# Altium footprint library 2020-11-22_16-49-29.PcbLib: 3 footprints
Each footprint in its own frame and in the unit in brackets; x right, y up, seen from the top. Pads: shape width x height; smd on the part's side, far side on the other; paste and mask are expansions set on the pad; w line width, h text height; cw(c..) or ccw(c..) is an arc to the next point about the centre after c.
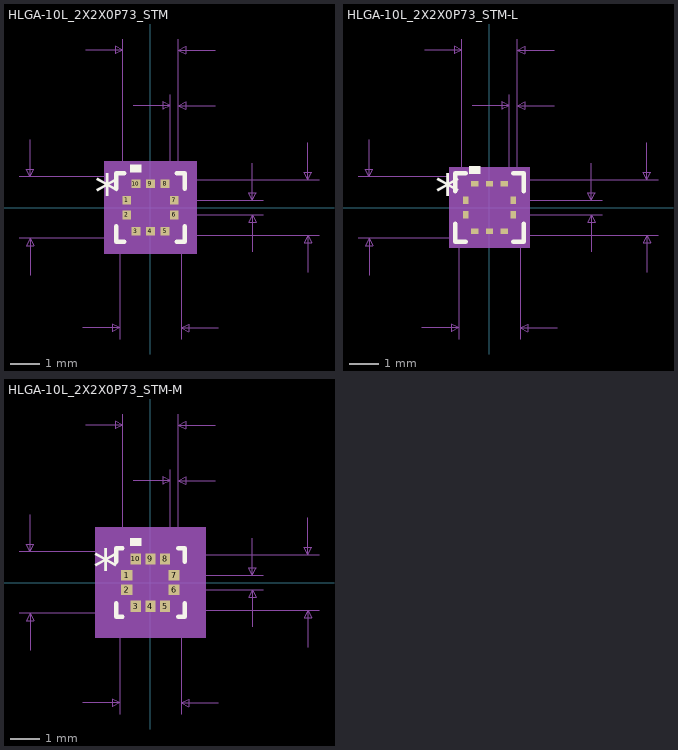
[diagram p0: the footprints below, top view; thin cyan lines are the x and y axes]

## HLGA-10L_2X2X0P73_STM [mil]
pads (10):
  rect 11x12 smd paste-1.2 mask+2: 1(-32,9.84) 2(-32,-9.84) 6(32,-9.84) 7(32,9.84)
  rect 12x11 smd paste-1.2 mask+2: 3(-19.68,-32) 4(0,-32) 5(19.68,-32) 8(19.68,32) 9(0,32) 10(-19.68,32)
Top Overlay:
  region: -12.19,47.5 -27.18,47.5 -27.18,57.5 -12.19,57.5
  lines w6: -46.5,-25.36 -46.5,-46.5 -35.2,-46.5 ; -46.5,25.36 -46.5,46.5 -35.2,46.5 ; 35.2,-46.5 46.5,-46.5 46.5,-25.36 ; 35.2,46.5 46.5,46.5 46.5,25.36
  text "*" at -75,-5.32 h50
Mechanical 5:
  region: 62.5,-62.5 -62.5,-62.5 -62.5,62.5 62.5,62.5
Mechanical 7:
  lines w1: -177.5,-41.5 41.5,-41.5 ; -177.5,41.5 41.5,41.5 41.5,-177.5 ; -162.5,-91.5 -162.5,-41.5 ; -162.5,91.5 -162.5,41.5 ; -91.5,-162.5 -41.5,-162.5 ; -87.5,212.5 -37.5,212.5 ; -41.5,-177.5 -41.5,41.5 ; -37.5,9.84 -37.5,227.5 ; -23.5,137.5 26.5,137.5 ; 19.68,-37.5 227.5,-37.5 ; 19.68,37.5 227.5,37.5 ; 26.5,9.84 26.5,152.5 ; 32,-9.84 152.5,-9.84 ; 32,9.84 152.5,9.84 ; 37.5,152.5 37.5,9.84 37.5,227.5 ; 87.5,137.5 37.5,137.5 ; 87.5,212.5 37.5,212.5 ; 91.5,-162.5 41.5,-162.5 ; 137.5,-59.84 137.5,-9.84 ; 137.5,59.84 137.5,9.84 ; 212.5,-87.5 212.5,-37.5 ; 212.5,87.5 212.5,37.5 ; -162.5,-41.5 -167.5,-51.5 -157.5,-51.5 -162.5,-41.5 ; -162.5,41.5 -167.5,51.5 -157.5,51.5 -162.5,41.5 ; -41.5,-162.5 -51.5,-157.5 -51.5,-167.5 -41.5,-162.5 ; -37.5,212.5 -47.5,217.5 -47.5,207.5 -37.5,212.5 ; 26.5,137.5 16.5,142.5 16.5,132.5 26.5,137.5 ; 37.5,137.5 47.5,142.5 47.5,132.5 37.5,137.5 ; 37.5,212.5 47.5,217.5 47.5,207.5 37.5,212.5 ; 41.5,-162.5 51.5,-157.5 51.5,-167.5 41.5,-162.5 ; 137.5,-9.84 132.5,-19.84 142.5,-19.84 137.5,-9.84 ; 137.5,9.84 132.5,19.84 142.5,19.84 137.5,9.84 ; 212.5,-37.5 207.5,-47.5 217.5,-47.5 212.5,-37.5 ; 212.5,37.5 207.5,47.5 217.5,47.5 212.5,37.5
  text "Default Padstyle: RX12Y11D0T" at -350,-347.5 h50
  text "Alt 1 Padstyle: OX60Y90D30P" at -337.5,-527.5 h50
  text "Alt 2 Padstyle: OX90Y60D30P" at -337.5,-587.5 h50
  text "0.02in/0.5mm" at 157.5,-12.5 h25
  text "0.011in/0.279mm" at -61.75,157.5 h25
  text "0.075in/1.905mm" at -93.75,232.5 h25
  text "0.075in/1.905mm" at 232.5,-12.5 h25
  text "0.083in/2.108mm" at -370,-12.5 h25
  text "0.083in/2.108mm" at -93.75,-207.5 h25
Mechanical 13:
  lines w1: -41.5,-8.5 8.5,41.5 ; -41.5,-41.5 41.5,-41.5 ; -41.5,-41.5 -41.5,41.5 ; -41.5,-41.5 -41.5,-41.5 ; -41.5,41.5 41.5,41.5 ; -41.5,41.5 -41.5,41.5 ; 41.5,-41.5 41.5,-41.5 ; 41.5,-41.5 41.5,41.5 ; 41.5,41.5 41.5,41.5 ; -41.5,-15.84 -41.5,-3.84 -37.5,-3.84 -37.5,-15.84 -41.5,-15.84 ; -41.5,3.84 -41.5,15.84 -37.5,15.84 -37.5,3.84 -41.5,3.84 ; -25.68,-41.5 -13.69,-41.5 -13.69,-37.5 -25.68,-37.5 -25.68,-41.5 ; -25.68,37.5 -13.69,37.5 -13.69,41.5 -25.68,41.5 -25.68,37.5 ; -6,-41.5 6,-41.5 6,-37.5 -6,-37.5 -6,-41.5 ; -6,37.5 6,37.5 6,41.5 -6,41.5 -6,37.5 ; 13.69,-41.5 25.68,-41.5 25.68,-37.5 13.69,-37.5 13.69,-41.5 ; 13.69,37.5 25.68,37.5 25.68,41.5 13.69,41.5 13.69,37.5 ; 37.5,-15.84 41.5,-15.84 41.5,-3.84 37.5,-3.84 37.5,-15.84 ; 37.5,3.84 41.5,3.84 41.5,15.84 37.5,15.84 37.5,3.84
  text "*" at -39,-5.32 h50
Mechanical 15:
  region: -35.69,-51.5 -51.5,-51.5 -51.5,-25.84 -51.5,25.84 -51.5,51.5 -35.69,51.5 35.69,51.5 51.5,51.5 51.5,25.84 51.5,-25.84 51.5,-51.5 35.69,-51.5
  lines w6: -51.5,-25.84 -51.5,-51.5 -35.69,-51.5 ; -51.5,-25.84 -51.5,-25.84 ; -51.5,-25.84 -51.5,25.84 ; -51.5,25.84 -51.5,25.84 ; -51.5,25.84 -51.5,51.5 -35.69,51.5 ; -35.69,-51.5 35.69,-51.5 ; -35.69,-51.5 -35.69,-51.5 ; -35.69,51.5 -35.69,51.5 ; -35.69,51.5 35.69,51.5 ; 35.69,-51.5 51.5,-51.5 51.5,-25.84 ; 35.69,-51.5 35.69,-51.5 ; 35.69,51.5 35.69,51.5 ; 35.69,51.5 51.5,51.5 51.5,25.84 ; 51.5,-25.84 51.5,25.84 ; 51.5,-25.84 51.5,-25.84 ; 51.5,25.84 51.5,25.84
3D body: height 10, standoff 0, extent 0,0 10,10

## HLGA-10L_2X2X0P73_STM-L [mil]
pads (10):
  rect 7x10 smd paste+0 mask+0: 1(-32,9.84) 2(-32,-9.84) 6(32,-9.84) 7(32,9.84)
  rect 10x7 smd paste+0 mask+0: 3(-19.68,-32) 4(0,-32) 5(19.68,-32) 8(19.68,32) 9(0,32) 10(-19.68,32)
Top Overlay:
  region: -12.19,45.5 -27.18,45.5 -27.18,55.5 -12.19,55.5
  lines w6: -46.5,-21.96 -46.5,-46.5 -31.8,-46.5 ; -46.5,21.96 -46.5,46.5 -31.8,46.5 ; 31.8,-46.5 46.5,-46.5 46.5,-21.96 ; 31.8,46.5 46.5,46.5 46.5,21.96
  text "*" at -73,-5.32 h50
Mechanical 5:
  region: 54.5,-54.5 -54.5,-54.5 -54.5,54.5 54.5,54.5
Mechanical 7:
  lines w1: -177.5,-41.5 41.5,-41.5 ; -177.5,41.5 41.5,41.5 41.5,-177.5 ; -162.5,-91.5 -162.5,-41.5 ; -162.5,91.5 -162.5,41.5 ; -91.5,-162.5 -41.5,-162.5 ; -87.5,212.5 -37.5,212.5 ; -41.5,-177.5 -41.5,41.5 ; -37.5,9.84 -37.5,227.5 ; -23.5,137.5 26.5,137.5 ; 19.68,-37.5 227.5,-37.5 ; 19.68,37.5 227.5,37.5 ; 26.5,9.84 26.5,152.5 ; 32,-9.84 152.5,-9.84 ; 32,9.84 152.5,9.84 ; 37.5,152.5 37.5,9.84 37.5,227.5 ; 87.5,137.5 37.5,137.5 ; 87.5,212.5 37.5,212.5 ; 91.5,-162.5 41.5,-162.5 ; 137.5,-59.84 137.5,-9.84 ; 137.5,59.84 137.5,9.84 ; 212.5,-87.5 212.5,-37.5 ; 212.5,87.5 212.5,37.5 ; -162.5,-41.5 -167.5,-51.5 -157.5,-51.5 -162.5,-41.5 ; -162.5,41.5 -167.5,51.5 -157.5,51.5 -162.5,41.5 ; -41.5,-162.5 -51.5,-157.5 -51.5,-167.5 -41.5,-162.5 ; -37.5,212.5 -47.5,217.5 -47.5,207.5 -37.5,212.5 ; 26.5,137.5 16.5,142.5 16.5,132.5 26.5,137.5 ; 37.5,137.5 47.5,142.5 47.5,132.5 37.5,137.5 ; 37.5,212.5 47.5,217.5 47.5,207.5 37.5,212.5 ; 41.5,-162.5 51.5,-157.5 51.5,-167.5 41.5,-162.5 ; 137.5,-9.84 132.5,-19.84 142.5,-19.84 137.5,-9.84 ; 137.5,9.84 132.5,19.84 142.5,19.84 137.5,9.84 ; 212.5,-37.5 207.5,-47.5 217.5,-47.5 212.5,-37.5 ; 212.5,37.5 207.5,47.5 217.5,47.5 212.5,37.5
  text "Default Padstyle: RX10Y7D0T" at -337.5,-345.5 h50
  text "Alt 1 Padstyle: OX60Y90D30P" at -337.5,-525.5 h50
  text "Alt 2 Padstyle: OX90Y60D30P" at -337.5,-585.5 h50
  text "0.02in/0.5mm" at 157.5,-12.5 h25
  text "0.011in/0.279mm" at -61.75,157.5 h25
  text "0.075in/1.905mm" at -93.75,232.5 h25
  text "0.075in/1.905mm" at 232.5,-12.5 h25
  text "0.083in/2.108mm" at -370,-12.5 h25
  text "0.083in/2.108mm" at -93.75,-207.5 h25
Mechanical 13:
  lines w1: -41.5,-8.5 8.5,41.5 ; -41.5,-41.5 41.5,-41.5 ; -41.5,-41.5 -41.5,41.5 ; -41.5,-41.5 -41.5,-41.5 ; -41.5,41.5 41.5,41.5 ; -41.5,41.5 -41.5,41.5 ; 41.5,-41.5 41.5,-41.5 ; 41.5,-41.5 41.5,41.5 ; 41.5,41.5 41.5,41.5 ; -41.5,-15.84 -41.5,-3.84 -37.5,-3.84 -37.5,-15.84 -41.5,-15.84 ; -41.5,3.84 -41.5,15.84 -37.5,15.84 -37.5,3.84 -41.5,3.84 ; -25.68,-41.5 -13.69,-41.5 -13.69,-37.5 -25.68,-37.5 -25.68,-41.5 ; -25.68,37.5 -13.69,37.5 -13.69,41.5 -25.68,41.5 -25.68,37.5 ; -6,-41.5 6,-41.5 6,-37.5 -6,-37.5 -6,-41.5 ; -6,37.5 6,37.5 6,41.5 -6,41.5 -6,37.5 ; 13.69,-41.5 25.68,-41.5 25.68,-37.5 13.69,-37.5 13.69,-41.5 ; 13.69,37.5 25.68,37.5 25.68,41.5 13.69,41.5 13.69,37.5 ; 37.5,-15.84 41.5,-15.84 41.5,-3.84 37.5,-3.84 37.5,-15.84 ; 37.5,3.84 41.5,3.84 41.5,15.84 37.5,15.84 37.5,3.84
  text "*" at -41,-5.32 h50
Mechanical 15:
  region: -28.68,-45.5 -45.5,-45.5 -45.5,-18.84 -45.5,18.84 -45.5,45.5 -28.68,45.5 28.68,45.5 45.5,45.5 45.5,18.84 45.5,-18.84 45.5,-45.5 28.68,-45.5
  lines w6: -45.5,-18.84 -45.5,-45.5 -28.68,-45.5 ; -45.5,-18.84 -45.5,-18.84 ; -45.5,-18.84 -45.5,18.84 ; -45.5,18.84 -45.5,18.84 ; -45.5,18.84 -45.5,45.5 -28.68,45.5 ; -28.68,-45.5 28.68,-45.5 ; -28.68,-45.5 -28.68,-45.5 ; -28.68,45.5 -28.68,45.5 ; -28.68,45.5 28.68,45.5 ; 28.68,-45.5 45.5,-45.5 45.5,-18.84 ; 28.68,-45.5 28.68,-45.5 ; 28.68,45.5 28.68,45.5 ; 28.68,45.5 45.5,45.5 45.5,18.84 ; 45.5,-18.84 45.5,18.84 ; 45.5,-18.84 45.5,-18.84 ; 45.5,18.84 45.5,18.84
3D body: height 10, standoff 0, extent 0,0 10,10

## HLGA-10L_2X2X0P73_STM-M [mil]
pads (10):
  rect 15x14 smd paste+0 mask+0: 1(-32,9.84) 2(-32,-9.84) 6(32,-9.84) 7(32,9.84)
  rect 14x15 smd paste+0 mask+0: 3(-19.68,-32) 4(0,-32) 5(19.68,-32) 8(19.68,32) 9(0,32) 10(-19.68,32)
Top Overlay:
  region: -12.19,49.5 -27.18,49.5 -27.18,59.5 -12.19,59.5
  lines w6: -46.5,-27.92 -46.5,-46.5 -37.76,-46.5 ; -46.5,27.92 -46.5,46.5 -37.76,46.5 ; 37.76,-46.5 46.5,-46.5 46.5,-27.92 ; 37.76,46.5 46.5,46.5 46.5,27.92
  text "*" at -77,-5.32 h50
Mechanical 5:
  region: 74.5,-74.5 -74.5,-74.5 -74.5,74.5 74.5,74.5
Mechanical 7:
  lines w1: -177.5,-41.5 41.5,-41.5 ; -177.5,41.5 41.5,41.5 41.5,-177.5 ; -162.5,-91.5 -162.5,-41.5 ; -162.5,91.5 -162.5,41.5 ; -91.5,-162.5 -41.5,-162.5 ; -87.5,212.5 -37.5,212.5 ; -41.5,-177.5 -41.5,41.5 ; -37.5,9.84 -37.5,227.5 ; -23.5,137.5 26.5,137.5 ; 19.68,-37.5 227.5,-37.5 ; 19.68,37.5 227.5,37.5 ; 26.5,9.84 26.5,152.5 ; 32,-9.84 152.5,-9.84 ; 32,9.84 152.5,9.84 ; 37.5,152.5 37.5,9.84 37.5,227.5 ; 87.5,137.5 37.5,137.5 ; 87.5,212.5 37.5,212.5 ; 91.5,-162.5 41.5,-162.5 ; 137.5,-59.84 137.5,-9.84 ; 137.5,59.84 137.5,9.84 ; 212.5,-87.5 212.5,-37.5 ; 212.5,87.5 212.5,37.5 ; -162.5,-41.5 -167.5,-51.5 -157.5,-51.5 -162.5,-41.5 ; -162.5,41.5 -167.5,51.5 -157.5,51.5 -162.5,41.5 ; -41.5,-162.5 -51.5,-157.5 -51.5,-167.5 -41.5,-162.5 ; -37.5,212.5 -47.5,217.5 -47.5,207.5 -37.5,212.5 ; 26.5,137.5 16.5,142.5 16.5,132.5 26.5,137.5 ; 37.5,137.5 47.5,142.5 47.5,132.5 37.5,137.5 ; 37.5,212.5 47.5,217.5 47.5,207.5 37.5,212.5 ; 41.5,-162.5 51.5,-157.5 51.5,-167.5 41.5,-162.5 ; 137.5,-9.84 132.5,-19.84 142.5,-19.84 137.5,-9.84 ; 137.5,9.84 132.5,19.84 142.5,19.84 137.5,9.84 ; 212.5,-37.5 207.5,-47.5 217.5,-47.5 212.5,-37.5 ; 212.5,37.5 207.5,47.5 217.5,47.5 212.5,37.5
  text "Default Padstyle: RX14Y15D0T" at -350,-349.5 h50
  text "Alt 1 Padstyle: OX60Y90D30P" at -337.5,-529.5 h50
  text "Alt 2 Padstyle: OX90Y60D30P" at -337.5,-589.5 h50
  text "0.02in/0.5mm" at 157.5,-12.5 h25
  text "0.011in/0.279mm" at -61.75,157.5 h25
  text "0.075in/1.905mm" at -93.75,232.5 h25
  text "0.075in/1.905mm" at 232.5,-12.5 h25
  text "0.083in/2.108mm" at -370,-12.5 h25
  text "0.083in/2.108mm" at -93.75,-207.5 h25
Mechanical 13:
  lines w1: -41.5,-8.5 8.5,41.5 ; -41.5,-41.5 41.5,-41.5 ; -41.5,-41.5 -41.5,41.5 ; -41.5,-41.5 -41.5,-41.5 ; -41.5,41.5 41.5,41.5 ; -41.5,41.5 -41.5,41.5 ; 41.5,-41.5 41.5,-41.5 ; 41.5,-41.5 41.5,41.5 ; 41.5,41.5 41.5,41.5 ; -41.5,-15.84 -41.5,-3.84 -37.5,-3.84 -37.5,-15.84 -41.5,-15.84 ; -41.5,3.84 -41.5,15.84 -37.5,15.84 -37.5,3.84 -41.5,3.84 ; -25.68,-41.5 -13.69,-41.5 -13.69,-37.5 -25.68,-37.5 -25.68,-41.5 ; -25.68,37.5 -13.69,37.5 -13.69,41.5 -25.68,41.5 -25.68,37.5 ; -6,-41.5 6,-41.5 6,-37.5 -6,-37.5 -6,-41.5 ; -6,37.5 6,37.5 6,41.5 -6,41.5 -6,37.5 ; 13.69,-41.5 25.68,-41.5 25.68,-37.5 13.69,-37.5 13.69,-41.5 ; 13.69,37.5 25.68,37.5 25.68,41.5 13.69,41.5 13.69,37.5 ; 37.5,-15.84 41.5,-15.84 41.5,-3.84 37.5,-3.84 37.5,-15.84 ; 37.5,3.84 41.5,3.84 41.5,15.84 37.5,15.84 37.5,3.84
  text "*" at -37,-5.32 h50
Mechanical 15:
  region: -46.69,-61.5 -61.5,-61.5 -61.5,-36.84 -61.5,36.84 -61.5,61.5 -46.69,61.5 46.69,61.5 61.5,61.5 61.5,36.84 61.5,-36.84 61.5,-61.5 46.69,-61.5
  lines w6: -61.5,-36.84 -61.5,-61.5 -46.69,-61.5 ; -61.5,-36.84 -61.5,-36.84 ; -61.5,-36.84 -61.5,36.84 ; -61.5,36.84 -61.5,36.84 ; -61.5,36.84 -61.5,61.5 -46.69,61.5 ; -46.69,-61.5 46.69,-61.5 ; -46.69,-61.5 -46.69,-61.5 ; -46.69,61.5 -46.69,61.5 ; -46.69,61.5 46.69,61.5 ; 46.69,-61.5 61.5,-61.5 61.5,-36.84 ; 46.69,-61.5 46.69,-61.5 ; 46.69,61.5 46.69,61.5 ; 46.69,61.5 61.5,61.5 61.5,36.84 ; 61.5,-36.84 61.5,36.84 ; 61.5,-36.84 61.5,-36.84 ; 61.5,36.84 61.5,36.84
3D body: height 10, standoff 0, extent 0,0 10,10